# EAGLE library part MAX31855 (library heck)
Cold-junction Compensated Thermocouple-to-digital Converter
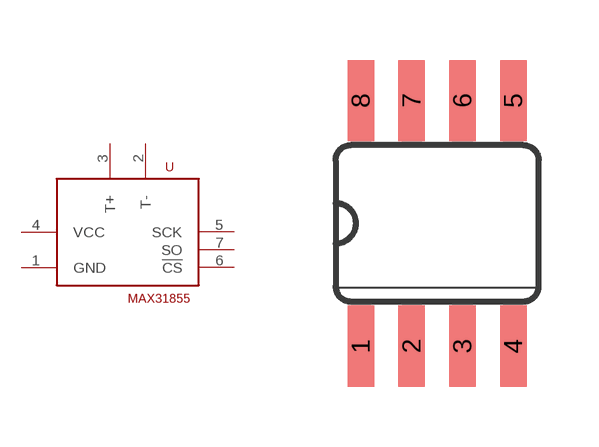
[diagram p8: symbol with the pads of SO08; footprint SO08]

Designator prefix -

## MAX31855  [SO08]
1  GND  pas
2  T-  pas
3  T+  pas
4  VCC  pas
5  SCK  pas
6  !CS  pas
7  SO  pas

## Footprint SO08 (pad centres in mm)
smd 0.66 x 2.032: 1 -1.905,-3.073; 2 -0.635,-3.073; 3 0.635,-3.073; 4 1.905,-3.073; 5 1.905,3.073; 6 0.635,3.073; 7 -0.635,3.073; 8 -1.905,3.073